# Altium integrated library MasterLib.IntLib: 241 symbols (part 2 of 2)
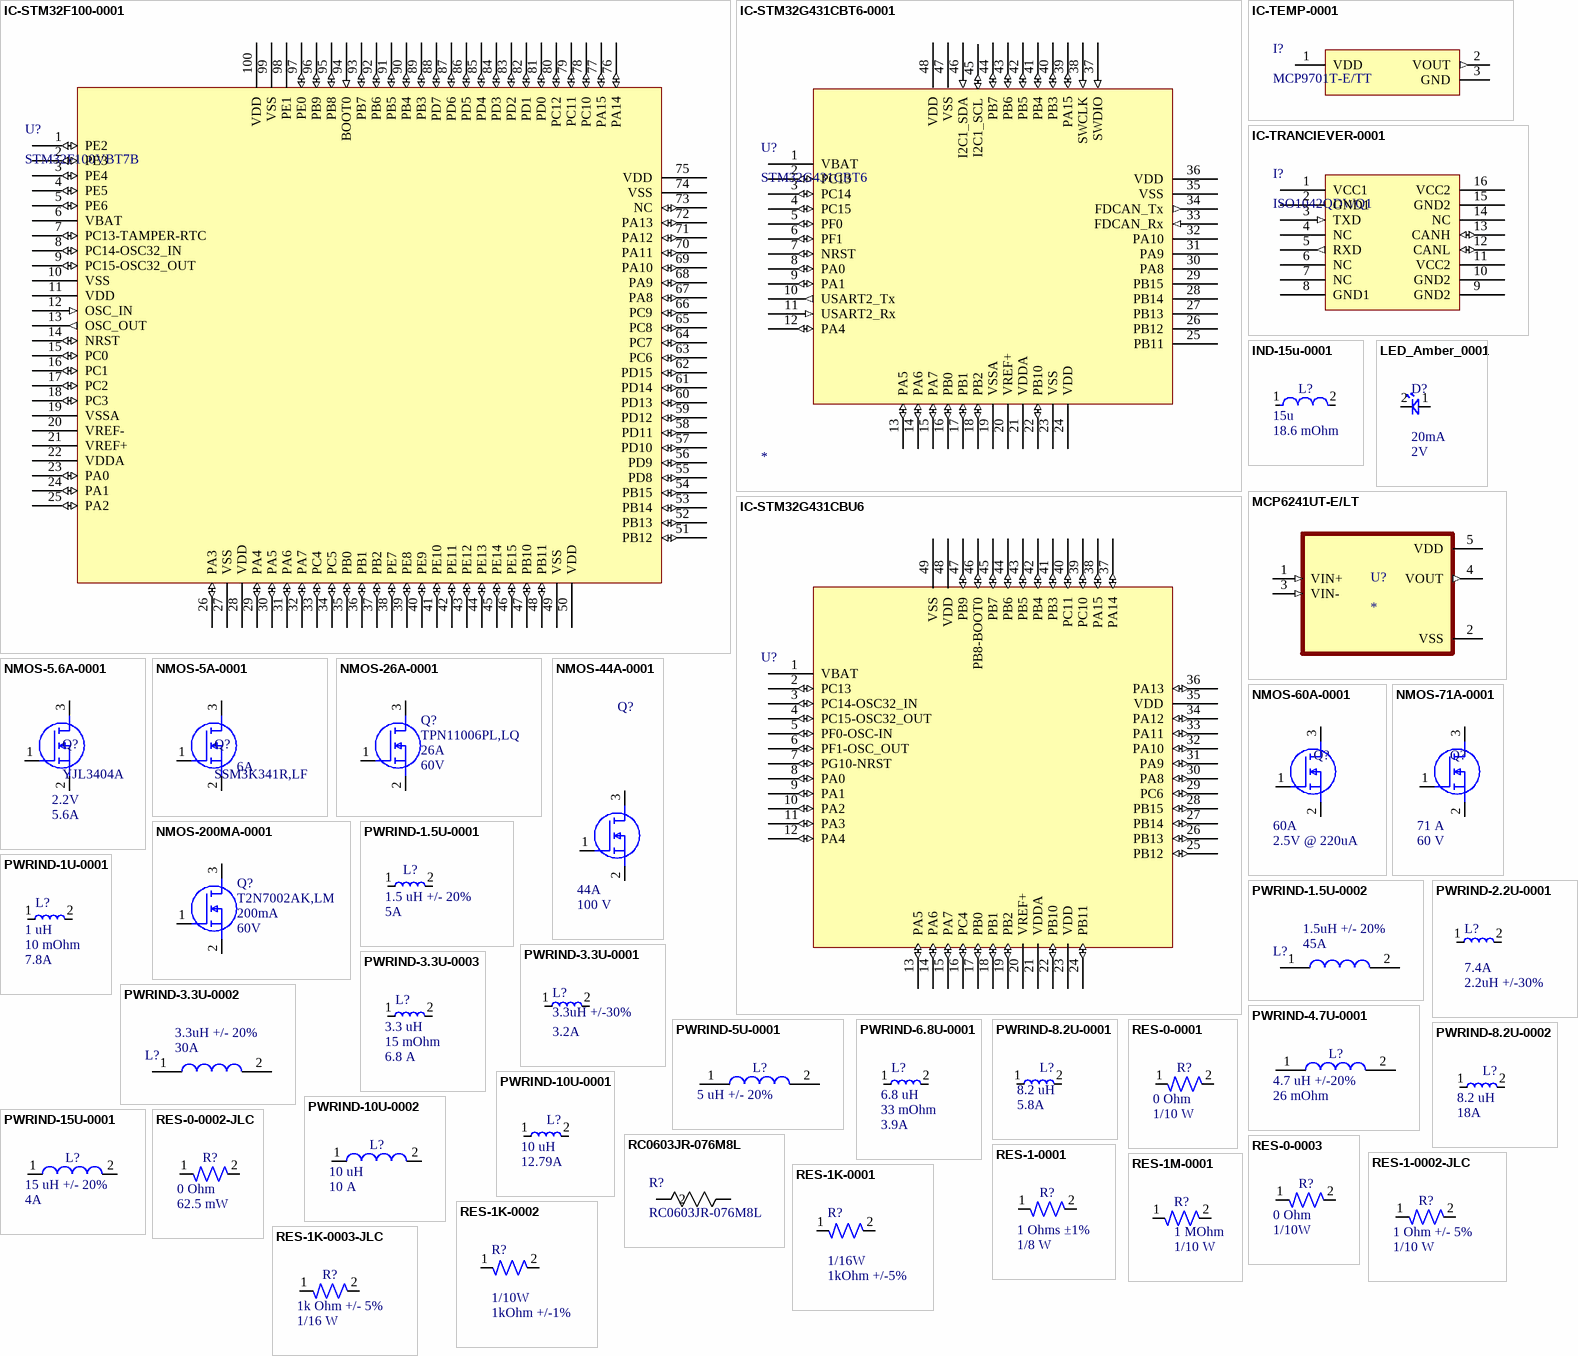
[diagram p7: symbols IC-STM32F100-0001 to RES-1M-0001]

## PWRIND-3.3U-0003
designator L?, comment Inductance: 3.3 uH  DCR: 15 mOhm  DCI: 6.8 A  (hidden comment: SRR1240-3R3Y)
3.3 µH Shielded Drum Core, Wirewound Inductor 6.8 A 15mOhm Max Nonstandard; Isat: 6.5A; Tolerance: 30%; Assembled?: No
footprint PWRIND-3.3U-0003
pins: 1, 2

## PWRIND-4.7U-0001
designator L?, comment Inductance: 4.7 uH +/-20%  DCR: 26 mOhm  (hidden comment: SRN6045TA-4R7M)
4.7 µH Semi-Shielded Drum Core, Wirewound Inductor 4.5 A 26mOhm Nonstandard; Saturation Current: 6.8A; Current Rating: 4.5A
footprint PWRIND-4.7U-0001
pins: 1, 2

## PWRIND-5U-0001
designator L?, comment Inductance: 5 uH +/- 20%  (hidden comment: SRR1206-5R0ML)
5 µH Shielded Drum Core, Wirewound Inductor 4.7 A 22mOhm Max Nonstandard; Current: 4.7A; Saturation Current: 8.3A; DCR: 22mOhm
footprint PWRIND-5U-0001
pins: 1, 2

## PWRIND-6.8U-0001
designator L?, comment Inductance: 6.8 uH  DCR: 33 mOhm  DCI: 3.9A  (hidden comment: SRN8040-6R8Y)
6.8 µH Semi-Shielded Drum Core, Wirewound Inductor 3.9 A 33mOhm Max Nonstandard; Isat: 4.2A; Tolerance: 30%; Assembled?: No
footprint PWRIND-6.8U-0001
pins: 1, 2

## PWRIND-8.2U-0001
designator L?, comment Inductance: 8.2 uH  DCI: 5.8A  (hidden comment: SDR1307-8R2ML)
8.2 µH Unshielded Drum Core, Wirewound Inductor 5.8 A 19mOhm Max Nonstandard; Manufacturer: Bourns Inc.; Tolerance: +/- 20%; Isat: 9.8A; Assembled?: No; Manufacturer Part Number: SDR1307-8R2ML; DCR: 19 mOhm
footprint PWRIND-8.2U-0001
pins: 1, 2

## PWRIND-8.2U-0002
designator L?, comment Inductance: 8.2 uH  DCI: 18A  (hidden comment: IHLP6767GZER8R2M01)
8.2 µH Shielded Molded Inductor 18 A 10.66mOhm Max Nonstandard; Isat: 25A; Tolerance: +/-20%; DCR: 10.66 mOhm
footprint PWRIND-8.2U-0002
pins: 1, 2

## PWRIND-10U-0001
designator L?, comment Inductance: 10 uH  DCI: 12.79A  (hidden comment: HC1-100-R)
10 µH Unshielded Drum Core, Wirewound Inductor 12.79 A 5.7mOhm Max Nonstandard; Isat: 5.3A; Tolerance: +/- 15%; DCR: 5.7mOhm
footprint PWRIND-10U-0001
pins: 1, 2

## PWRIND-10U-0002
designator L?, comment Inductance: 10 uH  DCI: 10 A  (hidden comment: SRP1270-100M)
10 µH Shielded Drum Core, Wirewound Inductor 10 A 16.8mOhm Max Nonstandard; Tolerance: +/- 20%; Isat: 16A; Assembled?: No; DCR: 16.8 mOhm
footprint PWRIND-10U-0002
pins: 1, 2

## PWRIND-15U-0001
designator L?, comment Inductance: 15 uH +/- 20%  Saturation Current: 4A  (hidden comment: SRN8040TA-150M)
15 µH Semi-Shielded Drum Core, Wirewound Inductor 3.6 A 50mOhm Nonstandard
footprint PWRIND-15U-0001
pins: 1, 2

## RC0603JR-076M8L
designator R?
No Description Available; Manufacturer_Name: Yageo; Copyright: Copyright (C) 2025 Ultra Librarian. All rights reserved.; Manufacturer_Part_Number: RC0603JR-076M8L
footprint RC0603N_YAG
pins: 1, 2

## RES-0-0001
designator R?, comment Resistance: 0 Ohm  Power: 1/10 W  (hidden comment: RMCF0603ZT0R00)
0 Ohms Jumper 0.1W, 1/10W Chip Resistor 0603 (1608 Metric) Automotive AEC-Q200 Thick Film; Package Size: 0603
footprint RES-0603
pins: 1, 2

## RES-0-0002-JLC
designator R?, comment Resistance: 0 Ohm  Power: 62.5 mW  (hidden comment: RC0402FR-070RL)
62.5mW Thick Film Resistors 50V -55℃~+155℃ 0Ω 0402 Chip Resistor - Surface Mount ROHS; assembled?: yes; JLC part number: C106231
footprint RES-0402
pins: 1, 2

## RES-0-0003
designator R?, comment Resistance: 0 Ohm  Power: 1/10W  (hidden comment: RESC1607X60N)
0 Ohms Jumper Chip Resistor 0603 (1608 Metric) Moisture Resistant Thick Film; assembled?: yes; JLC part number: C106231
footprint RESC1607X60N
pins: 1, 2

## RES-1-0001
designator R?, comment Power: 1/8 W  Resistance: 1 Ohms ±1%  (hidden comment: RNCP0603FTD1R00)
1 Ohms ±1% 0.125W, 1/8W Chip Resistor 0603 (1608 Metric) Anti-Sulfur Thin Film
footprint RES-0603
pins: 1, 2

## RES-1-0002-JLC
designator R?, comment Resistanvce: 1 Ohm +/- 5%  Power: 1/10 W  (hidden comment: ERJ2GEJ1R0X)
100mW Thick Film Resistors ±5% -100ppm/℃~+600ppm/℃ -55℃~+155℃ 1Ω 0402 Chip Resistor - Surface Mount ROHS; assembled?: yes; JLC part number: C412890
footprint RES-0402
pins: 1, 2

## RES-1K-0001
designator R?, comment Power Rating: 1/16W  Resistance: 1kOhm +/-5%  (hidden comment: RC0402JR-071KP)
RES SMD 1K OHM 5% 1/16W 0402; Manufacturer: YAGEO; Assembled?: no; Manufacturer Part Number: RC0402JR-071KP; Package Size: 0402
footprint RES-0402
pins: 1, 2

## RES-1K-0002
designator R?, comment Power Rating: 1/10W  Resistance: 1kOhm +/-1%  (hidden comment: RT0603FRE131KL)
1 kOhms ±1% 0.1W, 1/10W Chip Resistor 0603 (1608 Metric) Thin Film; Manufacturer: YAGEO; Assembled?: no; Manufacturer Part Number: RT0603FRE131KL; Package Size: 0603
footprint RES-0603
pins: 1, 2

## RES-1K-0003-JLC
designator R?, comment Resistance: 1k Ohm +/- 5%  Power: 1/16 W  (hidden comment: RC0402FR-071KL)
62.5mW Thick Film Resistors 50V ±100ppm/℃ ±1% -55℃~+155℃ 1kΩ 0402 Chip Resistor - Surface Mount ROHS; assembled?: yes; JLC Part Number: C106235
footprint RES-0402
pins: 1, 2

## RES-1M-0001
designator R?, comment Power: 1/10 W  Resistance: 1 MOhm  (hidden comment: RMCF0603FT1M00)
1 MOhms ±1% 0.1W, 1/10W Chip Resistor 0603 (1608 Metric) Automotive AEC-Q200 Thick Film; Package Size: 0603
footprint RES-0603
pins: 1, 2

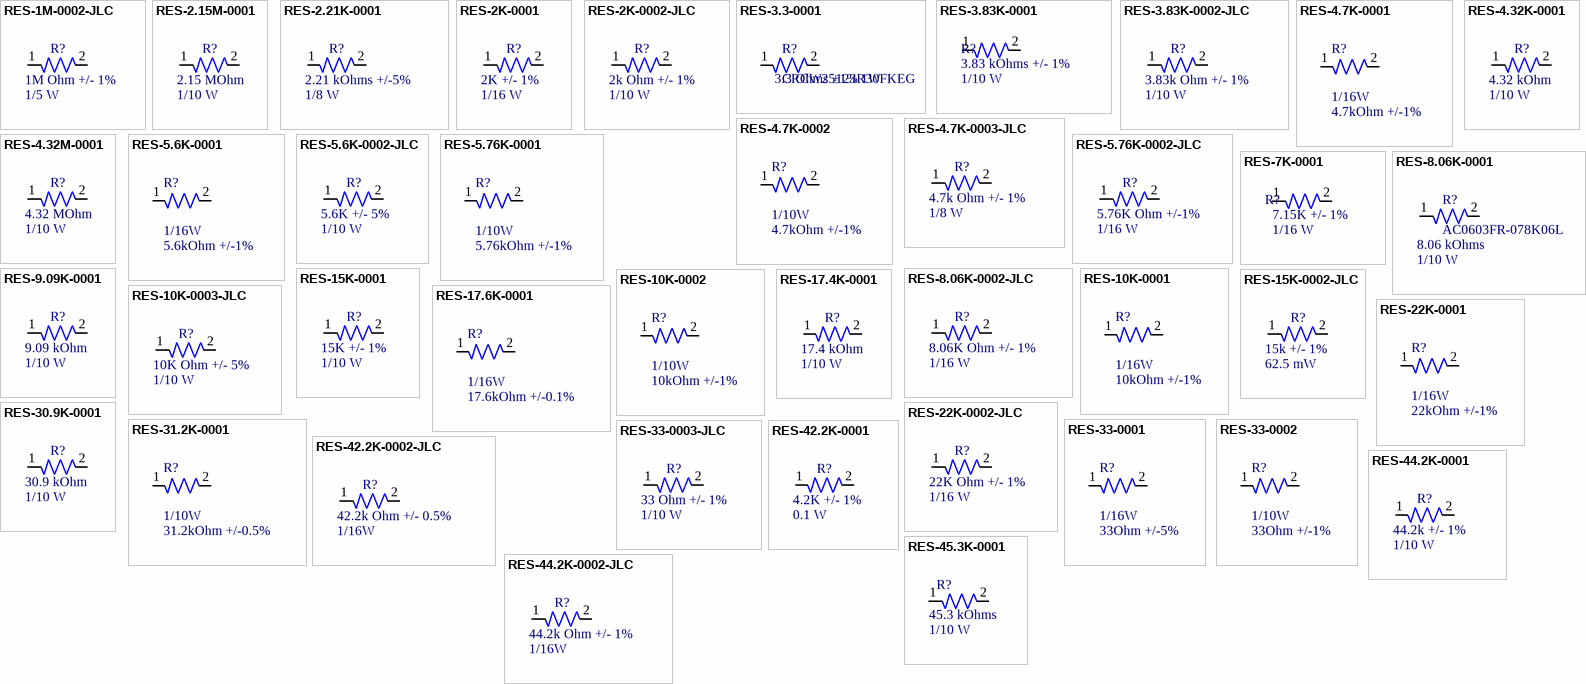
[diagram p4: symbols RES-1M-0002-JLC to RES-45.3K-0001]

## RES-1M-0002-JLC
designator R?, comment Resistance: 1M Ohm +/- 1%  Power: 1/5 W  (hidden comment: ERJPA2F1004X)
1/5W ±100ppm/℃ ±1% -55℃~+155℃ 1MΩ 0402 Chip Resistor - Surface Mount ROHS; assembled?: yes; JLC part number: C427259
footprint RES-0402
pins: 1, 2

## RES-2.15M-0001
designator R?, comment Resistance: 2.15 MOhm  Power: 1/10 W  (hidden comment: RC0603FR-072M15L)
2.15 MOhms ±1% 0.1W, 1/10W Chip Resistor 0603 (1608 Metric) Moisture Resistant Thick Film; Tolerance: +/-1%; Assembled?: No; Package Size: 0603
footprint RES-0603
pins: 1, 2

## RES-2.21K-0001
designator R?, comment Resistance: 2.21 kOhms +/-5%  Power: 1/8 W  (hidden comment: RT0805BRD072K21L)
2.21 kOhms ±0.1% 0.125W, 1/8W Chip Resistor 0805 (2012 Metric) Thin Film
footprint RES-0805
pins: 1, 2

## RES-2K-0001
designator R?, comment Resistance: 2K +/- 1%  Power: 1/16 W  (hidden comment: RC0402FR-072KP)
2 kOhms ±1% 0.063W, 1/16W Chip Resistor 0402 (1005 Metric) Thick Film
footprint RES-0402
pins: 1, 2

## RES-2K-0002-JLC
designator R?, comment Resistance: 2k Ohm +/- 1%  Parameter 2: 1/10 W  (hidden comment: ERJ2RKF2001X)
100mW Thick Film Resistors 100V ±100ppm/℃ ±1% -55℃~+155℃ 2kΩ 0402  Chip Resistor - Surface Mount ROHS; assembled?: yes; JLC part number: C413086
footprint RES-0402
pins: 1, 2

## RES-3.3-0001
designator R?, comment CRCW25123R30FKEG
3.3 Ohms ±1% 1W Chip Resistor 2512 (6432 Metric) Automotive AEC-Q200 Thick Film
footprint RES-2512
pins: 1, 2
text: 3.3 Ohms ±1% 1W

## RES-3.83K-0001
designator R?, comment Resistance: 3.83 kOhms +/- 1%  Power: 1/10 W  (hidden comment: RMCF0603FT3K83)
3.83 kOhms ±1% 0.1W, 1/10W Chip Resistor 0603 (1608 Metric) Automotive AEC-Q200 Thick Film
footprint RES-0603
pins: 1, 2

## RES-3.83K-0002-JLC
designator R?, comment Resistance: 3.83k Ohm +/- 1%  Power: 1/10 W  (hidden comment: 0603WAF6201T5E)
100mW Thick Film Resistors 75V ±100ppm/℃ ±1% -55℃~+155℃ 6.2kΩ 0603  Chip Resistor - Surface Mount ROHS; assembled?: yes; JLC part number: C4260
footprint RES-0402
pins: 1, 2

## RES-4.7K-0001
designator R?, comment Power Rating: 1/16W  Resistance: 4.7kOhm +/-1%  (hidden comment: RC0402FR-074K7P)
RES SMD 4.7K OHM 1% 1/16W 0402; Manufacturer: YAGEO; Assembled?: no; Manufacturer Part Number: RC0402FR-074K7P; Package Size: 0402
footprint RES-0402
pins: 1, 2

## RES-4.7K-0002
designator R?, comment Power Rating: 1/10W  Resistance: 4.7kOhm +/-1%  (hidden comment: AF0603FR-074K7L)
RES SMD 4.7K OHM 1% 1/10W 0603; Manufacturer: YAGEO; Assembled?: no; Manufacturer Part Number: AF0603FR-074K7L; Package Size: 0603
footprint RES-0603
pins: 1, 2

## RES-4.7K-0003-JLC
designator R?, comment Resistance: 4.7k Ohm +/- 1%  Power: 1/8 W  (hidden comment: RC0402FR-7W4K7L)
125mW Thick Film Resistors 50V ±1% ±200ppm/℃ -55℃~+155℃ 4.7kΩ 0402  Chip Resistor - Surface Mount ROHS; assembled?: yes; JLC part number: C606173
footprint RES-0402
pins: 1, 2

## RES-4.32K-0001
designator R?, comment Resistance: 4.32 kOhm  Power: 1/10 W  (hidden comment: RC0603FR-074K32L)
4.32 kOhms ±1% 0.1W, 1/10W Chip Resistor 0603 (1608 Metric) Moisture Resistant Thick Film; Tolerance: +/-1%; Assembled?: No; Package Size: 0603
footprint RES-0603
pins: 1, 2

## RES-4.32M-0001
designator R?, comment Resistance: 4.32 MOhm  Power: 1/10 W  (hidden comment: CRCW06034M32FKEA)
4.32 MOhms ±1% 0.1W, 1/10W Chip Resistor 0603 (1608 Metric) Automotive AEC-Q200 Thick Film; Tolerance: +/- 1%; Assembled?: No; Package Size: 0603
footprint RES-0603
pins: 1, 2

## RES-5.6K-0001
designator R?, comment Power Rating: 1/16W  Resistance: 5.6kOhm +/-1%  (hidden comment: AC0402FR-075K6L)
5.6 kOhms ±1% 0.063W, 1/16W Chip Resistor 0402 (1005 Metric) Automotive AEC-Q200, Moisture Resistant Thick Film; Manufacturer: YAGEO; Assembled?: no; Manufacturer Part Number: AC0402FR-075K6L; Package Size: 0402
footprint RES-0402
pins: 1, 2

## RES-5.6K-0002-JLC
designator R?, comment Resistance: 5.6K +/- 5%  Power: 1/10 W  (hidden comment: ERJ2GEJ472X)
100mW Thick Film Resistors ±5% ±200ppm/℃ -55℃~+155℃ 4.7kΩ 0402  Chip Resistor - Surface Mount ROHS; assembled?: yes; JLC part number: C413001
footprint RES-0402
pins: 1, 2

## RES-5.76K-0001
designator R?, comment Power Rating: 1/10W  Resistance: 5.76kOhm +/-1%  (hidden comment: ARG03FTC5761)
100mW Thin Film Resistor 75V ±25ppm/℃ ±1% -55℃~+155℃ 5.76kΩ 0603 Chip Resistor - Surface Mount ROHS; Manufacturer: Viking Tech; Assembled?: no; Manufacturer Part Number: ARG03FTC5761; Package Size: 0603
footprint RES-0603
pins: 1, 2

## RES-5.76K-0002-JLC
designator R?, comment Resistance: 5.76K Ohm +/-1%  Power: 1/16 W  (hidden comment: RTT025761FTH)
62.5mW Thick Film Resistors 50V ±100ppm/℃ ±1% -55℃~+155℃ 5.76kΩ 0402  Chip Resistor - Surface Mount ROHS; assembled?: yes; JLC part number: C11590
footprint RES-0402
pins: 1, 2

## RES-7K-0001
designator R?, comment Resistance: 7.15K +/- 1%  Power: 1/16 W  (hidden comment: CRCW04027K15FKED)
7.15 kOhms ±1% 0.063W, 1/16W Chip Resistor 0402 (1005 Metric) Automotive AEC-Q200 Thick Film
footprint RES-0402
pins: 1, 2

## RES-8.06K-0001
designator R?, comment AC0603FR-078K06L  Resistance: 8.06 kOhms  Power: 1/10 W
8.06 kOhms ±1% 0.1W, 1/10W Chip Resistor 0603 (1608 Metric) Automotive AEC-Q200, Moisture Resistant Thick Film
footprint RES-0603
pins: 1, 2

## RES-8.06K-0002-JLC
designator R?, comment Resistance: 8.06K Ohm +/- 1%  Power: 1/16 W  (hidden comment: RC0402FR-078K06L)
62.5mW Thick Film Resistors 50V ±100ppm/℃ ±1% -55℃~+155℃ 8.06kΩ 0402  Chip Resistor - Surface Mount ROHS; assembled?: yes; JLC part number: C276278
footprint RES-0402
pins: 1, 2

## RES-9.09K-0001
designator R?, comment Resistance: 9.09 kOhm  Power: 1/10 W  (hidden comment: RC0603FR-079K09L)
9.09 kOhms ±1% 0.1W, 1/10W Chip Resistor 0603 (1608 Metric) Moisture Resistant Thick Film; Tolerance: +/-1%; Assembled?: No; Package Size: 0603
footprint RES-0603
pins: 1, 2

## RES-10K-0001
designator R?, comment Power Rating: 1/16W  Resistance: 10kOhm +/-1%  (hidden comment: RC0402FR-0710KL)
RES 10K OHM 1% 1/16W 0402; Manufacturer: YAGEO; Assembled?: no; Manufacturer Part Number: RC0402FR-0710KL; Package Size: 0402
footprint RES-0402
pins: 1, 2

## RES-10K-0002
designator R?, comment Power Rating: 1/10W  Resistance: 10kOhm +/-1%  (hidden comment: RC0603FR-0710KP)
RES SMD 10K OHM 1% 1/10W 0603; Manufacturer: YAGEO; Assembled?: no; Manufacturer Part Number: RC0603FR-0710KP; Package Size: 0603
footprint RES-0603
pins: 1, 2

## RES-10K-0003-JLC
designator R?, comment Resistance: 10K Ohm +/- 5%  Power: 1/10 W  (hidden comment: ERJ2GEJ103X)
100mW Thick Film Resistors 100V ±5% ±200ppm/℃ -55℃~+155℃ 10kΩ 0402  Chip Resistor - Surface Mount ROHS; assembled?: yes; JLC part number: C278577
footprint RES-0402
pins: 1, 2

## RES-15K-0001
designator R?, comment Res: 15K +/- 1%  Power: 1/10 W  (hidden comment: ERJ-2RKF1502X)
15 kOhms ±1% 0.1W, 1/10W Chip Resistor 0402 (1005 Metric) Automotive AEC-Q200 Thick Film
footprint RES-0402
pins: 1, 2

## RES-15K-0002-JLC
designator R?, comment Resistance: 15k +/- 1%  Power: 62.5 mW  (hidden comment: 0402WGF1502TCE)
62.5mW Thick Film Resistors 50V ±100ppm/℃ ±1% -55℃~+155℃ 15kΩ 0402 Chip Resistor - Surface Mount ROHS; jlc?: yes; jlc part number: C25756
footprint RES-0402
pins: 1, 2

## RES-17.4K-0001
designator R?, comment Resistance: 17.4 kOhm  Power: 1/10 W  (hidden comment: RC0603FR-0717K4L)
17.4 kOhms ±1% 0.1W, 1/10W Chip Resistor 0603 (1608 Metric) Moisture Resistant Thick Film; Tolerance: +/- 1%; Assembled?: No; Package Size: 0603
footprint RES-0603
pins: 1, 2

## RES-17.6K-0001
designator R?, comment Power Rating: 1/16W  Resistance: 17.6kOhm +/-0.1%  (hidden comment: TNPW040217K6BEED)
17.6 kOhms ±0.1% 0.063W, 1/16W Chip Resistor 0402 (1005 Metric) Anti-Sulfur, Automotive AEC-Q200, Moisture Resistant Thin Film; Manufacturer: Vishay Dale; Assembled?: no; Manufacturer Part Number: TNPW040217K6BEED; Package Size: 0402
footprint RES-0402
pins: 1, 2

## RES-22K-0001
designator R?, comment Power Rating: 1/16W  Resistance: 22kOhm +/-1%  (hidden comment: RC0402FR-1022KL)
22 kOhms ±1% 0.063W, 1/16W Chip Resistor 0402 (1005 Metric) Thick Film; Manufacturer: YAGEO; Assembled?: no; Manufacturer Part Number: RC0402FR-1022KL; Package Size: 0402
footprint RES-0402
pins: 1, 2

## RES-22K-0002-JLC
designator R?, comment Resistance: 22K Ohm +/- 1%  Power: 1/16 W  (hidden comment: AC0402FR-0722KL)
62.5mW Thick Film Resistors 50V ±100ppm/℃ ±1% -55℃~+155℃ 22kΩ 0402  Chip Resistor - Surface Mount ROHS; assembled?: yes; JLC part number: C144778
footprint RES-0402
pins: 1, 2

## RES-30.9K-0001
designator R?, comment Resistance: 30.9 kOhm  Power: 1/10 W  (hidden comment: RC0603FR-0730K9L)
30.9 kOhms ±1% 0.1W, 1/10W Chip Resistor 0603 (1608 Metric) Moisture Resistant Thick Film; Assembled?: No; Tolerance: 1%; Package Size: 0603
footprint RES-0603
pins: 1, 2

## RES-31.2K-0001
designator R?, comment Power Rating: 1/10W  Resistance: 31.2kOhm +/-0.5%  (hidden comment: RT0603DRE0731K2L)
31.2 kOhms ±0.5% 0.1W, 1/10W Chip Resistor 0603 (1608 Metric) Thin Film; Manufacturer: YAGEO; Assembled?: no; Manufacturer Part Number: RT0603DRE0731K2L; Package Size: 0603
footprint RES-0603
pins: 1, 2

## RES-33-0001
designator R?, comment Power Rating: 1/16W  Resistance: 33Ohm +/-5%  (hidden comment: RC0402JR-0733RP)
RES SMD 33 OHM 5% 1/16W 0402; Manufacturer: YAGEO; Assembled?: no; Manufacturer Part Number: RC0402JR-0733RP; Package Size: 0402
footprint RES-0402
pins: 1, 2

## RES-33-0002
designator R?, comment Power Rating: 1/10W  Resistance: 33Ohm +/-1%  (hidden comment: RC0603FR-0733RP)
RES SMD 33 OHM 1% 1/10W 0603; Manufacturer: YAGEO; Assembled?: no; Manufacturer Part Number: RC0603FR-0733RP; Package Size: 0603
footprint RES-0603
pins: 1, 2

## RES-33-0003-JLC
designator R?, comment Resistance: 33 Ohm +/- 1%  Power: 1/10 W  (hidden comment: ERJ2RKF33R0X)
100mW Thick Film Resistors ±100ppm/℃ ±1% -55℃~+155℃ 33Ω 0402  Chip Resistor - Surface Mount ROHS; assembled?: yes; JLC part number: C278594
footprint RES-0402
pins: 1, 2

## RES-42.2K-0001
designator R?, comment Resistance: 4.2K +/- 1%  Power Rating: 0.1 W  (hidden comment: CRCW060342K2FKEA)
42.2 kOhms ±1% 0.1W, 1/10W Chip Resistor 0603 (1608 Metric) Automotive AEC-Q200 Thick Film; Manufacturer: VIshay Dale; Assembled?: Yes; Manufacturer Part Number: CRCW060342K2FKEA; Package Size: 0603
footprint RES-0603
pins: 1, 2

## RES-42.2K-0002-JLC
designator R?, comment Resistance: 42.2k Ohm +/- 0.5%  Power: 1/16W  (hidden comment: RC0402DR-0742K2L)
62.5mW Thick Film Resistors 50V ±100ppm/℃ ±0.5% -55℃~+155℃ 42.2kΩ 0402  Chip Resistor - Surface Mount ROHS; assembled?: yes; JLC part number: C471785
footprint RES-0402
pins: 1, 2

## RES-44.2K-0001
designator R?, comment Resistance: 44.2k +/- 1%  Power: 1/10 W  (hidden comment: RMCF0603FT44K2)
44.2 kOhms ±1% 0.1W, 1/10W Chip Resistor 0603 (1608 Metric) Automotive AEC-Q200 Thick Film
footprint RES-0603
pins: 1, 2

## RES-44.2K-0002-JLC
designator R?, comment Resistance: 44.2k Ohm +/- 1%  Power: 1/16W  (hidden comment: RC0402FR-0744K2L)
62.5mW Thick Film Resistors 50V ±100ppm/℃ ±1% -55℃~+155℃ 44.2kΩ 0402  Chip Resistor - Surface Mount ROHS; assembled?: yes; JLC part number: C354260
footprint RES-0402
pins: 1, 2

## RES-45.3K-0001
designator R?, comment Power: 1/10 W  Resistance: 45.3 kOhms  (hidden comment: RC0603FR-0745K3L)
45.3 kOhms ±1% 0.1W, 1/10W Chip Resistor 0603 (1608 Metric) Moisture Resistant Thick Film; Tolerance: +/- 1%; Assembled?: no; Package Size: 0603
footprint RES-0603
pins: 1, 2

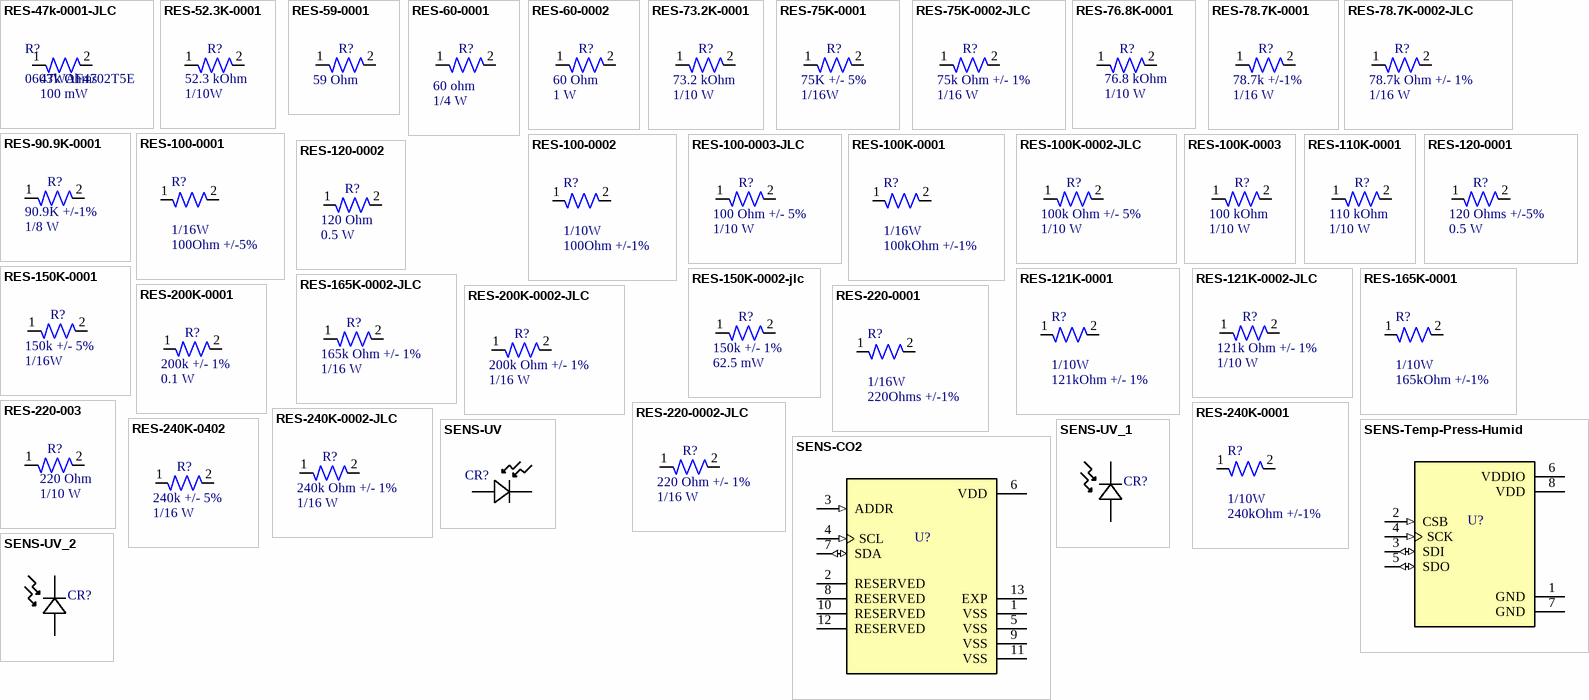
[diagram p5: symbols RES-47k-0001-JLC to SENS-UV_2]

## RES-47k-0001-JLC
designator R?, comment 0603WAF4702T5E
100mW Thick Film Resistors 75V ±100ppm/℃ ±1% 47kΩ 0603 Chip Resistor - Surface Mount ROHS; Resistance: 47kOhms; Power: 100mW
footprint RES-0603
pins: 1, 2
text: 47k Ohms; 100 mW

## RES-52.3K-0001
designator R?, comment Resistance: 52.3 kOhm  Power: 1/10W  (hidden comment: RC0603FR-0752K3L)
52.3 kOhms ±1% 0.1W, 1/10W Chip Resistor 0603 (1608 Metric) Moisture Resistant Thick Film; Manufacturer: YAGEO; Tolerance: +/- 1%; Assembled?: no; Manufacturer Part Number: RC0603FR-0752K3L; Package Size: 0603
footprint RES-0603
pins: 1, 2

## RES-59-0001
designator R?, comment Resistance: 59 Ohm  (hidden comment: RC1206FR-0759RL)
59 Ohms ±1% 0.25W, 1/4W Chip Resistor 1206 (3216 Metric) Moisture Resistant Thick Film; Tolerance: +/- 1%; Assembled?: No; Power: 1/4 W; Package Size: 1206
footprint RES-1206
pins: 1, 2

## RES-60-0001
designator R?, comment Resistance: 60 ohm  Power: 1/4 W  (hidden comment: CRCW120660R0KNEAIF)
Thick Film Resistors - SMD 1/4watt 60ohms 10%; Assembled?: No; Package Size: 1206
footprint RES-1206
pins: 1, 2

## RES-60-0002
designator R?, comment Resistance: 60 Ohm  Power: 1 W  (hidden comment: CMF6060R000BHR6)
Metal Film Resistors 1W 60ohms .1%; Tolerance: 0.1%; Voltage Rating: 500V; Package Size: Through Hole
footprint RES-60-0002
pins: 1, 2

## RES-73.2K-0001
designator R?, comment Resistance: 73.2 kOhm  Power: 1/10 W  (hidden comment: RC0603FR-0773K2L)
73.2 kOhms ±1% 0.1W, 1/10W Chip Resistor 0603 (1608 Metric) Moisture Resistant Thick Film; Assembled?: No; Tolerance: 1%; Package Size: 0603
footprint RES-0603
pins: 1, 2

## RES-75K-0001
designator R?, comment Resistance: 75K +/- 5%  Power: 1/16W  (hidden comment: RMCF0402JT75K0)
75 kOhms ±5% 0.063W, 1/16W Chip Resistor 0402 (1005 Metric) Automotive AEC-Q200 Thick Film
footprint RES-0402
pins: 1, 2

## RES-75K-0002-JLC
designator R?, comment Resistance: 75k Ohm +/- 1%  Power: 1/16 W  (hidden comment: CR0402FF7502G)
62.5mW Thick Film Resistors 50V ±1% ±200ppm/℃ -55℃~+125℃ 75kΩ 0402  Chip Resistor - Surface Mount ROHS; assembled?: yes; JLC part number: C100527
footprint RES-0402
pins: 1, 2

## RES-76.8K-0001
designator R?, comment Power: 1/10 W  Resistance: 76.8 kOhm  (hidden comment: RC0603FR-0776K8L)
76.8 kOhms ±1% 0.1W, 1/10W Chip Resistor 0603 (1608 Metric) Moisture Resistant Thick Film; Manufacturer: Yageo; Tolerance: +/- 1%; Package Size: 0603
footprint RES-0603
pins: 1, 2

## RES-78.7K-0001
designator R?, comment Resistance: 78.7k +/-1%  Power: 1/16 W  (hidden comment: RMCF0402FT78K7)
78.7 kOhms ±1% 0.063W, 1/16W Chip Resistor 0402 (1005 Metric) Automotive AEC-Q200 Thick Film
footprint RES-0402
pins: 1, 2

## RES-78.7K-0002-JLC
designator R?, comment Resistance: 78.7k Ohm +/- 1%  Power: 1/16 W  (hidden comment: RC0402FR-0778K7L)
62.5mW 50V ±100ppm/℃ ±1% -55℃~+155℃ 78.7kΩ 0402  Chip Resistor - Surface Mount ROHS; assembled?: yes; JLC part number: C163454
footprint RES-0402
pins: 1, 2

## RES-90.9K-0001
designator R?, comment Parameter 2: 1/8 W  Parameter 1: 90.9K +/-1%  (hidden comment: AC0402FR-7W90K9L)
90.9 kOhms ±1% 0.125W, 1/8W Chip Resistor 0402 (1005 Metric) Automotive AEC-Q200, Moisture Resistant Thick Film
footprint RES-0402
pins: 1, 2

## RES-100-0001
designator R?, comment Power Rating: 1/16W  Resistance: 100Ohm +/-5%  (hidden comment: RC0402JR-07100RP)
RES SMD 100 OHM 5% 1/16W 0402; Manufacturer: YAGEO; Assembled?: no; Manufacturer Part Number: RC0402JR-07100RP; Package Size: 0402
footprint RES-0402
pins: 1, 2

## RES-100-0002
designator R?, comment Power Rating: 1/10W  Resistance: 100Ohm +/-1%  (hidden comment: AC0603FR-10100RL)
100 Ohms ±1% 0.1W, 1/10W Chip Resistor 0603 (1608 Metric) Automotive AEC-Q200 Thick Film; Manufacturer: YAGEO; Assembled?: no; Manufacturer Part Number: AC0603FR-10100RL; Package Size: 0603
footprint RES-0603
pins: 1, 2

## RES-100-0003-JLC
designator R?, comment Resistance: 100 Ohm +/- 5%  Power: 1/10 W  (hidden comment: ERJ2GEJ101X)
100mW Thick Film Resistors ±5% ±200ppm/℃ -55℃~+155℃ 100Ω 0402  Chip Resistor - Surface Mount ROHS; assembled?: yes; JLC part number: C412972
footprint RES-0402
pins: 1, 2

## RES-100K-0001
designator R?, comment Power Rating: 1/16W  Resistance: 100kOhm +/-1%  (hidden comment: AF0402FR-07100KL)
100 kOhms ±1% 0.063W, 1/16W Chip Resistor 0402 (1005 Metric) Anti-Sulfur, Automotive AEC-Q200 Thick Film; Manufacturer: YAGEO; Assembled?: no; Manufacturer Part Number: AF0402FR-07100KL; Package Size: 0402
footprint RES-0402
pins: 1, 2

## RES-100K-0002-JLC
designator R?, comment Resistance: 100k Ohm +/- 5%  Power: 1/10 W  (hidden comment: ERJ2GEJ104X)
100mW Thick Film Resistors ±5% ±200ppm/℃ -55℃~+155℃ 100kΩ 0402  Chip Resistor - Surface Mount ROHS; assembled?: yes; JLC part number: C413017
footprint RES-0402
pins: 1, 2

## RES-100K-0003
designator R?, comment Resistance: 100 kOhm  Power: 1/10 W  (hidden comment: RC0603FR-07100KL)
100 kOhms ±1% 0.1W, 1/10W Chip Resistor 0603 (1608 Metric) Moisture Resistant Thick Film; Tolerance: +/- 1%; Assembled?: No; Package Size: 0603
footprint RES-0603
pins: 1, 2

## RES-110K-0001
designator R?, comment Resistance: 110 kOhm  Power: 1/10 W  (hidden comment: RC0603FR-07110KL)
110 kOhms ±1% 0.1W, 1/10W Chip Resistor 0603 (1608 Metric) Moisture Resistant Thick Film; Tolerance: +/- 1%; Assembled?: No; Package Size: 0603
footprint RES-0603
pins: 1, 2

## RES-120-0001
designator R?, comment Resistance: 120 Ohms +/-5%  Power: 0.5 W  (hidden comment: ERJ-P06J121V)
120 Ohms ±5% 0.5W, 1/2W Chip Resistor 0805 (2012 Metric) Automotive AEC-Q200, Pulse Withstanding Thick Film
footprint RES-0805
pins: 1, 2

## RES-120-0002
designator R?, comment Resistance: 120 Ohm  Power: 0.5 W  (hidden comment: CRGH1206F120R)
120 Ohms ±1% 0.5W, 1/2W Chip Resistor 1206 (3216 Metric) Thick Film; Tolerance: 1%; Package Size: 1206
footprint RES-1206
pins: 1, 2

## RES-121K-0001
designator R?, comment Power Rating: 1/10W  Resistance: 121kOhm +/- 1%  (hidden comment: RC0603FR-07121KL)
121k Ohms ±1% 0.1W, 1/10W Chip Resistor 0603 (1608 Metric) Moisture Resistant Thick Film; Manufacturer: YAGEO; Assembled?: no; Manufacturer Part Number: RC0603FR-07121KL; Package Size: 0603
footprint RES-0603
pins: 1, 2

## RES-121K-0002-JLC
designator R?, comment Resistance: 121k Ohm +/- 1%  Power: 1/10 W  (hidden comment: RMC10K1213FTH)
100mW ±100ppm/℃ ±1% 121kΩ 0402  Chip Resistor - Surface Mount ROHS; assembled?: yes; JLC part number: C323687
footprint RES-0402
pins: 1, 2

## RES-150K-0001
designator R?, comment Resistance: 150k +/- 5%  Power: 1/16W  (hidden comment: *RC0402JR-07150KL)
150 kOhms ±5% 0.063W, 1/16W Chip Resistor 0402 (1005 Metric) Moisture Resistant Thick Film
footprint RES-0402
pins: 1, 2

## RES-150K-0002-jlc
designator R?, comment Resistance: 150k +/- 1%  Power: 62.5 mW  (hidden comment: AF0402FR-07150KL)
62.5mW Thick Film Resistors 50V ±100ppm/℃ ±1% -55℃~+155℃ 150kΩ 0402 Chip Resistor - Surface Mount ROHS; jlc part number: C144033; jlc?: yes
footprint RES-0402
pins: 1, 2

## RES-165K-0001
designator R?, comment Power Rating: 1/10W  Resistance: 165kOhm +/-1%  (hidden comment: RC0603FR-07165KL)
165k Ohms ±1% 0.1W, 1/10W Chip Resistor 0603 (1608 Metric) Moisture Resistant Thick Film; Manufacturer: YAGEO; Assembled?: no; Manufacturer Part Number: RC0603FR-07165KL; Package Size: 0603
footprint RES-0603
pins: 1, 2

## RES-165K-0002-JLC
designator R?, comment Resistance: 165k Ohm +/- 1%  Power: 1/16 W  (hidden comment: RC0402FR-07165KL)
62.5mW Thick Film Resistors 50V ±100ppm/℃ ±1% -55℃~+155℃ 165kΩ 0402  Chip Resistor - Surface Mount ROHS; assembled?: yes; JLC part number: C327368
footprint RES-0402
pins: 1, 2

## RES-200K-0001
designator R?, comment Resistance: 200k +/- 1%  Power Rating: 0.1 W  (hidden comment: ERJ-3EKF2003V)
200 kOhms ±1% 0.1W, 1/10W Chip Resistor 0603 (1608 Metric) Automotive AEC-Q200 Thick Film; Manufacturer: Panasonic Electronic Components; Assembled?: Yes; MFP: ERJ-3EKF2003V; Package SIze: 0603
footprint RES-0603
pins: 1, 2

## RES-200K-0002-JLC
designator R?, comment Resistance: 200k Ohm +/- 1%  Power: 1/16 W  (hidden comment: RC-02W2003FT)
62.5mW 50V ±1% ±200ppm/℃ -55℃~+155℃ 200kΩ 0402  Chip Resistor - Surface Mount ROHS; assembled?: yes; JLC part number: C258094
footprint RES-0402
pins: 1, 2

## RES-220-0001
designator R?, comment Power Rating: 1/16W  Resistance: 220Ohms +/-1%  (hidden comment: AC0402FR-07220RL)
220 Ohms ±1% 0.063W, 1/16W Chip Resistor 0402 (1005 Metric) Automotive AEC-Q200, Moisture Resistant Thick Film; Manufacturer: YAGEO; Assembled?: no; Manufacturer Part Number: AC0402FR-07220RL; Package Size: 0402
footprint RES-0402
pins: 1, 2

## RES-220-0002-JLC
designator R?, comment Resistance: 220 Ohm +/- 1%  Power: 1/16 W  (hidden comment: RM04FTN2200)
62.5mW Thick Film Resistors 50V ±100ppm/℃ ±1% -55℃~+155℃ 220Ω 0402  Chip Resistor - Surface Mount ROHS; assembled?: yes; JLC part number: C160487
footprint RES-0402
pins: 1, 2

## RES-220-003
designator R?, comment Resistance: 220 Ohm  Power: 1/10 W  (hidden comment: CRGCQ0603J220R)
220 Ohms ±5% 0.1W, 1/10W Chip Resistor 0603 (1608 Metric) Automotive AEC-Q200, Moisture Resistant Thick Film; Tolerance: +/- 5%; Package Size: 0603
footprint RES-0603
pins: 1, 2

## RES-240K-0001
designator R?, comment Power Rating: 1/10W  Resistance: 240kOhm +/-1%  (hidden comment: RC0603FR-07240KL)
240k Ohms ±1% 0.1W, 1/10W Chip Resistor 0603 (1608 Metric) Moisture Resistant Thick Film; Manufacturer: YAGEO; Assembled?: no; Manufacturer Part Number: RC0603FR-07240KL; Package Size: 0603
footprint RES-0603
pins: 1, 2

## RES-240K-0002-JLC
designator R?, comment Resistance: 240k Ohm +/- 1%  Power: 1/16 W  (hidden comment: 0402WGF2403TCE)
62.5mW Thick Film Resistors 50V ±100ppm/℃ ±1% -55℃~+155℃ 240kΩ 0402  Chip Resistor - Surface Mount ROHS; assembled?: yes; JLC part number: C64043
footprint RES-0402
pins: 1, 2

## RES-240K-0402
designator R?, comment Res: 240k +/- 5%  Power: 1/16 W  (hidden comment: RC1005J244CS)
240 kOhms ±5% 0.063W, 1/16W Chip Resistor 0402 (1005 Metric) Moisture Resistant Thick Film
footprint RES-0402
footprint CAP-10U-0004 (Footprint not found)
pins: 1, 2

## SENS-CO2
designator U?, comment STC31-C-R3  (value not drawn)
SENSOR CARBON DIOXIDE I2C OUTPUT; MF: Sensirion; SnapEDA_Link: https://www.snapeda.com/parts/STC31-C-R3/Sensirion/view-part/?ref=snap; Package: Package; Value: *; MP: STC31-C-R3; Check_prices: https://www.snapeda.com/parts/STC31-C-R3/Sensirion/view-part/?ref=eda; ComponentLink1Description: Datasheet; ComponentLink1URL: https://sensirion.com/media/documents/D9F76A0F/686E30AC/TC_DS_STC31-C_D1.pdf
footprint XDCR_STC31-C-R3
pins: 1 VSS (power), 2 RESERVED, 3 ADDR (in), 4 SCL (in), 5 VSS (power), 6 VDD (power), 7 SDA (io), 8 RESERVED, 9 VSS (power), 10 RESERVED, 11 VSS (power), 12 RESERVED, 13 EXP (power)

## SENS-Temp-Press-Humid
designator U?, comment BME280  (value not drawn)
DIGITAL HUMIDITY, PRESSURE AND TEMPERATURE SENSOR<br>* Digital interface IÂ²C (up to 3.4 MHz) and SPI (3 and 4 wire, up to 10 MHz)* Supply voltage VDD main supply voltage range: 1.71 V to 3.6 V*VDDIO interface voltage range: 1.2 V to 3.6 V<br> Operating range -40â€¦+85 Â°C, 0â€¦100 % rel. humidity, 300â€¦1100 hPa <br><br>  The library has been designed by<a href="https://www.facebook.com/groups/eaglecadsoftUK"> Richard Magdycz</a>; Package: None; Availability: Unavailable; MP: BME280; Value: *; Price: None; ComponentLink1Description: Datasheet; ComponentLink1URL: https://www.bosch-sensortec.com/media/boschsensortec/downloads/datasheets/bst-bme280-ds002.pdf
footprint PSON65P250X250X100-8N
pins: 1 GND (power), 2 CSB (in), 3 SDI (io), 4 SCK (in), 5 SDO (io), 6 VDDIO (power), 7 GND (power), 8 VDD (power)

## SENS-UV
designator CR?, comment GUVA-S12SD  (value not drawn)
SENSOR PHOTODIODE 2SMD; Manufacturer_Name: Genicom; Copyright: Copyright (C) 2025 Ultra Librarian. All rights reserved.; Manufacturer_Part_Number: GUVA-S12SD; ComponentLink1Description: Datasheet; ComponentLink1URL: https://mm.digikey.com/Volume0/opasdata/d220001/medias/docus/6128/GUVA-S12SD%20%282%29.pdf
footprint CR_GUVA-S12SD_GCM
pins: 1 CATHODE, 2 ANODE

## SENS-UV_1
designator CR?, comment GUVA-S12SD  (value not drawn)
SENSOR PHOTODIODE 2SMD; Manufacturer_Name: Genicom; Copyright: Copyright (C) 2025 Ultra Librarian. All rights reserved.; Manufacturer_Part_Number: GUVA-S12SD; ComponentLink1Description: Datasheet; ComponentLink1URL: https://mm.digikey.com/Volume0/opasdata/d220001/medias/docus/6128/GUVA-S12SD%20%282%29.pdf
footprint CR_GUVA-S12SD_GCM
pins: 1 CATHODE, 2 ANODE

## SENS-UV_2
designator CR?, comment GUVA-S12SD  (value not drawn)
SENSOR PHOTODIODE 2SMD; Manufacturer_Name: Genicom; Copyright: Copyright (C) 2025 Ultra Librarian. All rights reserved.; Manufacturer_Part_Number: GUVA-S12SD; ComponentLink1Description: Datasheet; ComponentLink1URL: https://mm.digikey.com/Volume0/opasdata/d220001/medias/docus/6128/GUVA-S12SD%20%282%29.pdf
footprint CR_GUVA-S12SD_GCM
pins: 1 CATHODE, 2 ANODE

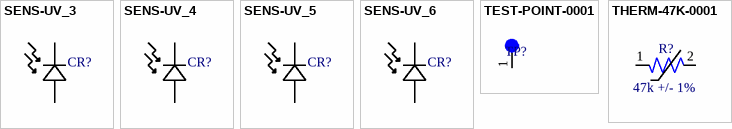
[diagram p6: symbols SENS-UV_3 to THERM-47K-0001]

## SENS-UV_3
designator CR?, comment GUVA-S12SD  (value not drawn)
SENSOR PHOTODIODE 2SMD; Manufacturer_Name: Genicom; Copyright: Copyright (C) 2025 Ultra Librarian. All rights reserved.; Manufacturer_Part_Number: GUVA-S12SD; ComponentLink1Description: Datasheet; ComponentLink1URL: https://mm.digikey.com/Volume0/opasdata/d220001/medias/docus/6128/GUVA-S12SD%20%282%29.pdf
footprint CR_GUVA-S12SD_GCM
pins: 1 CATHODE, 2 ANODE

## SENS-UV_4
designator CR?, comment GUVA-S12SD  (value not drawn)
SENSOR PHOTODIODE 2SMD; Manufacturer_Name: Genicom; Copyright: Copyright (C) 2025 Ultra Librarian. All rights reserved.; Manufacturer_Part_Number: GUVA-S12SD; ComponentLink1Description: Datasheet; ComponentLink1URL: https://mm.digikey.com/Volume0/opasdata/d220001/medias/docus/6128/GUVA-S12SD%20%282%29.pdf
footprint CR_GUVA-S12SD_GCM
pins: 1 CATHODE, 2 ANODE

## SENS-UV_5
designator CR?, comment GUVA-S12SD  (value not drawn)
SENSOR PHOTODIODE 2SMD; Manufacturer_Name: Genicom; Copyright: Copyright (C) 2025 Ultra Librarian. All rights reserved.; Manufacturer_Part_Number: GUVA-S12SD; ComponentLink1Description: Datasheet; ComponentLink1URL: https://mm.digikey.com/Volume0/opasdata/d220001/medias/docus/6128/GUVA-S12SD%20%282%29.pdf
footprint CR_GUVA-S12SD_GCM
pins: 1 CATHODE, 2 ANODE

## SENS-UV_6
designator CR?, comment GUVA-S12SD  (value not drawn)
SENSOR PHOTODIODE 2SMD; Manufacturer_Name: Genicom; Copyright: Copyright (C) 2025 Ultra Librarian. All rights reserved.; Manufacturer_Part_Number: GUVA-S12SD; ComponentLink1Description: Datasheet; ComponentLink1URL: https://mm.digikey.com/Volume0/opasdata/d220001/medias/docus/6128/GUVA-S12SD%20%282%29.pdf
footprint CR_GUVA-S12SD_GCM
pins: 1 CATHODE, 2 ANODE

## TEST-POINT-0001
designator TP?, comment 5003  (value not drawn)
Oranange PC Test Point, Miniature Phoisphor Bronze Silver Plating Through Hole Mounting Type
footprint TEST-POINT-0001 (2024 miniature test point)
pins: 1 0

## THERM-47K-0001
designator R?, comment Resistance: 47k +/- 1%  (hidden comment: TMP6431DECR)
PTC Thermistor 47 kOhms 0402 (1006 Metric); Manufacturer: Texas Instruments; Manufacturer Part Number: TMP6431DECR; Package Size: 0402
footprint RES-0402
pins: 1, 2